# EAGLE library part ADS1294 (library mytexas)
Low-Power, 8-Channel, 24-Bit Analog Front-End for Biopotential Measurements
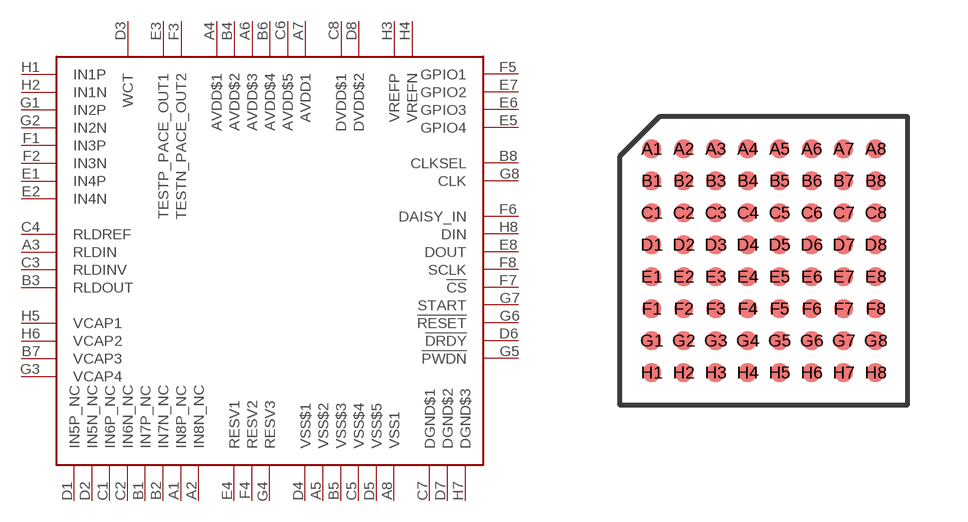
[diagram p106: symbol with the pads of BGA64; footprint BGA64]

Designator prefix -

## ADS1294  [BGA64]
A1  IN8P_NC
A2  IN8N_NC
A3  RLDIN
A4  AVDD$1
A5  VSS$2
A6  AVDD$3
A7  AVDD1
A8  VSS1
B1  IN7P_NC
B2  IN7N_NC
B3  RLDOUT
B4  AVDD$2
B5  VSS$3
B6  AVDD$4
B7  VCAP3
B8  CLKSEL
C1  IN6P_NC
C2  IN6N_NC
C3  RLDINV
C4  RLDREF
C5  VSS$4
C6  AVDD$5
C7  DGND$1
C8  DVDD$1
D1  IN5P_NC
D2  IN5N_NC
D3  WCT
D4  VSS$1
D5  VSS$5
D6  !DRDY
D7  DGND$2
D8  DVDD$2
E1  IN4P
E2  IN4N
E3  TESTP_PACE_OUT1
E4  RESV1
E5  GPIO4
E6  GPIO3
E7  GPIO2
E8  DOUT
F1  IN3P
F2  IN3N
F3  TESTN_PACE_OUT2
F4  RESV2
F5  GPIO1
F6  DAISY_IN
F7  !CS
F8  SCLK
G1  IN2P
G2  IN2N
G3  VCAP4
G4  RESV3
G5  !PWDN
G6  !RESET
G7  START
G8  CLK
H1  IN1P
H2  IN1N
H3  VREFP
H4  VREFN
H5  VCAP1
H6  VCAP2
H7  DGND$3
H8  DIN

## Footprint BGA64 (pad centres in mm)
smd 0.46 x 0.46: A1 -2.8,2.8; A2 -2,2.8; A3 -1.2,2.8; A4 -0.4,2.8; A5 0.4,2.8; A6 1.2,2.8; A7 2,2.8; A8 2.8,2.8; B1 -2.8,2; B2 -2,2; B3 -1.2,2; B4 -0.4,2; B5 0.4,2; B6 1.2,2; B7 2,2; B8 2.8,2; C1 -2.8,1.2; C2 -2,1.2; C3 -1.2,1.2; C4 -0.4,1.2; C5 0.4,1.2; C6 1.2,1.2; C7 2,1.2; C8 2.8,1.2; D1 -2.8,0.4; D2 -2,0.4; D3 -1.2,0.4; D4 -0.4,0.4; D5 0.4,0.4; D6 1.2,0.4; D7 2,0.4; D8 2.8,0.4; E1 -2.8,-0.4; E2 -2,-0.4; E3 -1.2,-0.4; E4 -0.4,-0.4; E5 0.4,-0.4; E6 1.2,-0.4; E7 2,-0.4; E8 2.8,-0.4; F1 -2.8,-1.2; F2 -2,-1.2; F3 -1.2,-1.2; F4 -0.4,-1.2; F5 0.4,-1.2; F6 1.2,-1.2; F7 2,-1.2; F8 2.8,-1.2; G1 -2.8,-2; G2 -2,-2; G3 -1.2,-2; G4 -0.4,-2; G5 0.4,-2; G6 1.2,-2; G7 2,-2; G8 2.8,-2; H1 -2.8,-2.8; H2 -2,-2.8; H3 -1.2,-2.8; H4 -0.4,-2.8; H5 0.4,-2.8; H6 1.2,-2.8; H7 2,-2.8; H8 2.8,-2.8